# EAGLE library part DEBUGGER (library FPC_0512810594)
CONN FFC FPC 5POS 0.50MM R/A Source: Datasheet <http://www.molex.com/webdocs/datasheets/pdf/en-us//0512810594_FFC_FPC_CONNECTORS.pdf>
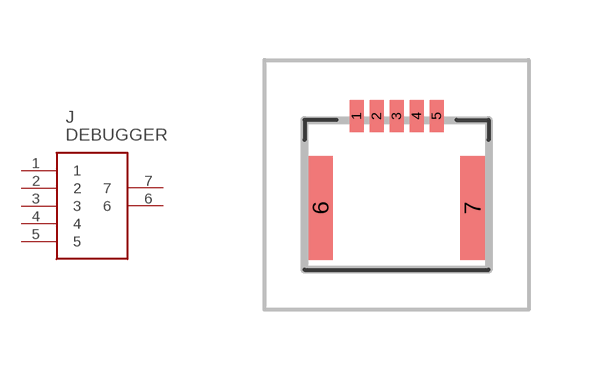
[diagram p0: symbol with the pads of 0512810594; footprint 0512810594]

Designator prefix J

## DEBUGGER (DESCRIPTION: CONN FFC FPC 5POS 0.50MM R/A; LINK: https://www.digikey.com/product-detail/en/molex-llc/0512810594/WM12846CT-ND/4176653; MANUFACTURER_NAME: Molex; MANUFACTURER_PART_NUM: 0512810594)  [0512810594]
1  1
2  2
3  3
4  4
5  5
6  6
7  7

## Footprint 0512810594 (pad centres in mm)
0512810594-1
smd 0.35 x 0.8: 1 -1,1.725; 2 -0.5,1.725; 3 0,1.725; 4 0.5,1.725; 5 1,1.725
smd 0.6 x 2.6: 6 -1.9,-0.575; 7 1.9,-0.575